# Altium footprint library PcbLib1.PcbLib: 42 footprints (part 3 of 3)
Each footprint in its own frame and in the unit in brackets; x right, y up, seen from the top. Pads: shape width x height; smd on the part's side, far side on the other; paste and mask are expansions set on the pad; w line width, h text height; cw(c..) or ccw(c..) is an arc to the next point about the centre after c.
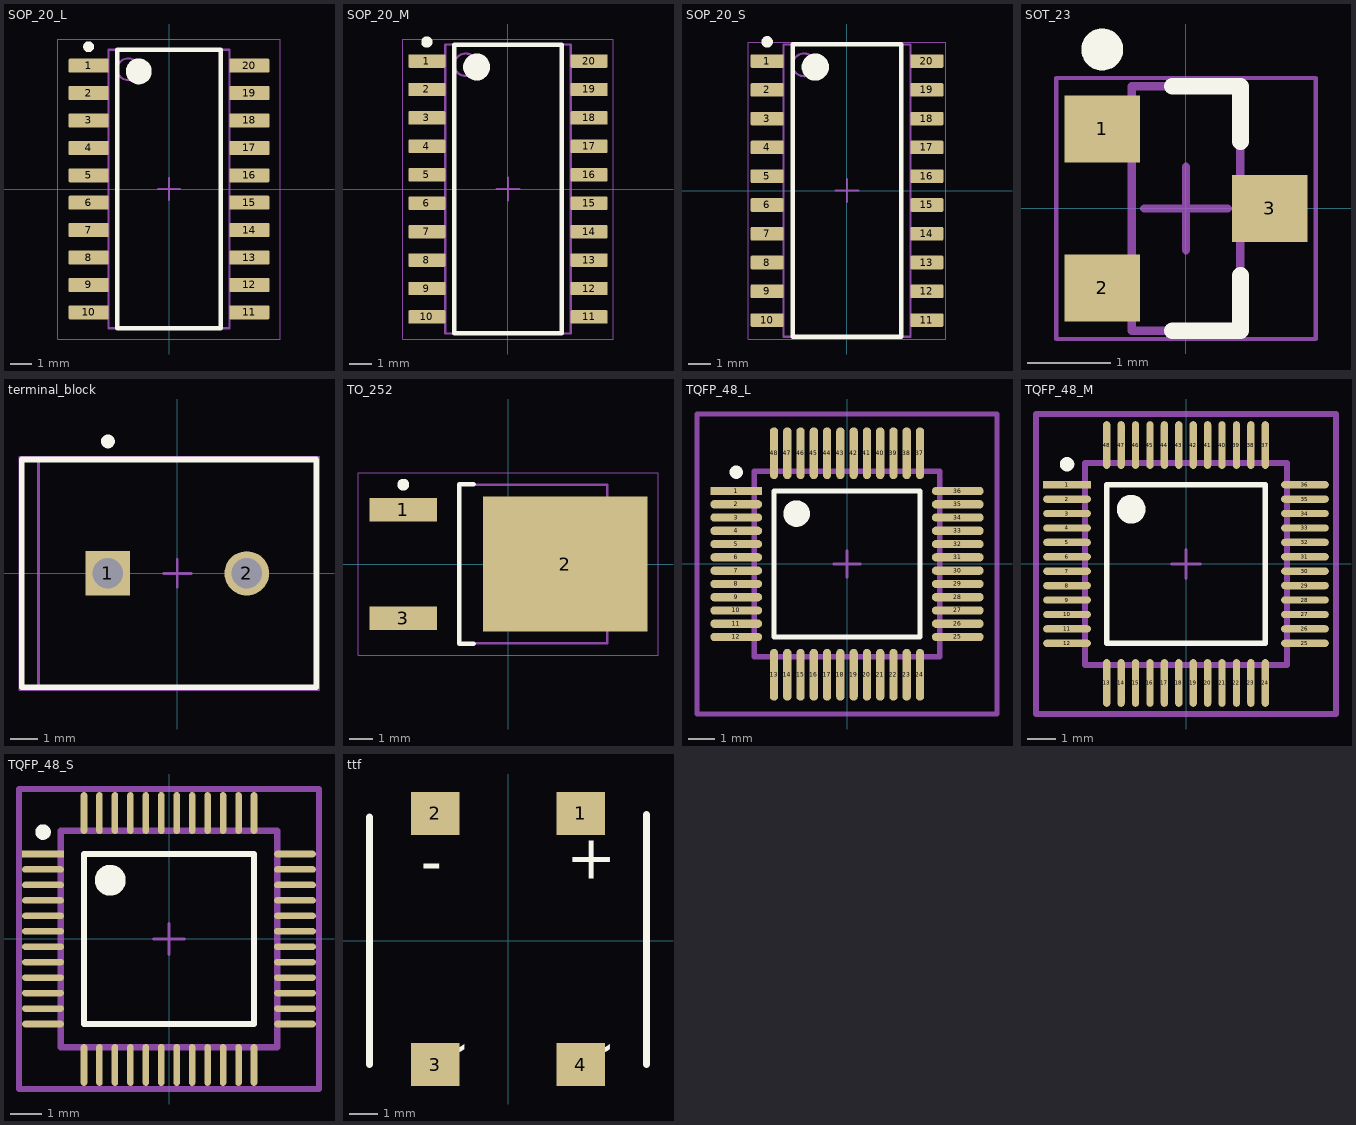
[diagram p2: the footprints below, top view; thin cyan lines are the x and y axes]

## SOP_20_L [mm] "SOIC,20-Leads,Body 12.9x5.6mm,Pitch 1.27mm,IPC Low Density"
height 2
pads (20):
  rrect15% 1.85x0.65 smd: 1(-3.725,5.715) 2(-3.725,4.445) 3(-3.725,3.175) 4(-3.725,1.905) 5(-3.725,0.635) 6(-3.725,-0.635) 7(-3.725,-1.905) 8(-3.725,-3.175) 9(-3.725,-4.445) 10(-3.725,-5.715) 11(3.725,-5.715) 12(3.725,-4.445) 13(3.725,-3.175) 14(3.725,-1.905) 15(3.725,-0.635) 16(3.725,0.635) 17(3.725,1.905) 18(3.725,3.175) 19(3.725,4.445) 20(3.725,5.715)
Top Overlay:
  circle w0.6: c-1.4,5.45 r0.3
  circle w0.25: c-3.725,6.59 r0.125
  lines w0.2: -2.4,-6.45 2.4,-6.45 2.4,6.45 -2.4,6.45 -2.4,-6.45
Mechanical 1:
  text ".Designator" at -1.524,-0.508 h1.02
Mechanical 13:
  circle w0.1: c-1.9,5.55 r0.5
  lines w0.1: -2.8,-6.45 2.8,-6.45 2.8,6.45 -2.8,6.45 -2.8,-6.45
Mechanical 15:
  lines w0.05: -5.15,-6.95 5.15,-6.95 5.15,6.95 -5.15,6.95 -5.15,-6.95
  lines w0.1: -0.5,0 0.5,0 ; 0,-0.5 0,0.5
3D body: height 2, standoff 0.05, extent -2.8,-6.45 2.8,6.45

## SOP_20_M [mm] "SOIC,20-Leads,Body 12.9x5.6mm,Pitch 1.27mm,IPC Medium Density"
height 2
pads (20):
  rrect17% 1.65x0.6 smd: 1(-3.625,5.715) 2(-3.625,4.445) 3(-3.625,3.175) 4(-3.625,1.905) 5(-3.625,0.635) 6(-3.625,-0.635) 7(-3.625,-1.905) 8(-3.625,-3.175) 9(-3.625,-4.445) 10(-3.625,-5.715) 11(3.625,-5.715) 12(3.625,-4.445) 13(3.625,-3.175) 14(3.625,-1.905) 15(3.625,-0.635) 16(3.625,0.635) 17(3.625,1.905) 18(3.625,3.175) 19(3.625,4.445) 20(3.625,5.715)
Top Overlay:
  circle w0.25: c-3.625,6.565 r0.125
  circle w0.6: c-1.4,5.45 r0.3
  lines w0.2: -2.4,-6.45 -2.4,6.45 2.4,6.45 2.4,-6.45 -2.4,-6.45
Mechanical 1:
  text ".Designator" at -1.524,-0.508 h1.02
Mechanical 13:
  circle w0.1: c-1.9,5.55 r0.5
  lines w0.1: -2.8,-6.45 -2.8,6.45 2.8,6.45 2.8,-6.45 -2.8,-6.45
Mechanical 15:
  lines w0.05: -4.7,-6.7 -4.7,6.7 4.7,6.7 4.7,-6.7 -4.7,-6.7
  lines w0.1: -0.5,0 0.5,0 ; 0,-0.5 0,0.5
3D body: height 2, standoff 0.05, extent -2.8,-6.45 2.8,6.45

## SOP_20_S [mm] "SOIC,20-Leads,Body 12.9x5.6mm,Pitch 1.27mm,IPC High Density"
height 2
pads (20):
  rrect17% 1.45x0.6 smd: 1(-3.525,5.715) 2(-3.525,4.445) 3(-3.525,3.175) 4(-3.525,1.905) 5(-3.525,0.635) 6(-3.525,-0.635) 7(-3.525,-1.905) 8(-3.525,-3.175) 9(-3.525,-4.445) 10(-3.525,-5.715) 11(3.525,-5.715) 12(3.525,-4.445) 13(3.525,-3.175) 14(3.525,-1.905) 15(3.525,-0.635) 16(3.525,0.635) 17(3.525,1.905) 18(3.525,3.175) 19(3.525,4.445) 20(3.525,5.715)
Top Overlay:
  circle w0.6: c-1.4,5.45 r0.3
  circle w0.25: c-3.525,6.565 r0.125
  lines w0.2: -2.4,-6.45 2.4,-6.45 2.4,6.45 -2.4,6.45 -2.4,-6.45
Mechanical 1:
  text ".Designator" at -1.524,-0.508 h1.02
Mechanical 13:
  circle w0.1: c-1.9,5.55 r0.5
  lines w0.1: -2.8,-6.45 2.8,-6.45 2.8,6.45 -2.8,6.45 -2.8,-6.45
Mechanical 15:
  lines w0.05: -4.35,-6.55 4.35,-6.55 4.35,6.55 -4.35,6.55 -4.35,-6.55
  lines w0.1: -0.5,0 0.5,0 ; 0,-0.5 0,0.5
3D body: height 2, standoff 0.05, extent -2.8,-6.45 2.8,6.45

## SOT_23 [mm] "SOT23, 3-Leads, Body 2.92x1.3mm, Pitch 0.95mm"
height 1.11
pads (3):
  rect 0.9x0.8 smd: 1(-1,0.95) 2(-1,-0.95) 3(1,0)
Top Overlay:
  circle w0.25: c-1,1.9 r0.125
  lines w0.2: -0.165,-1.46 0.65,-1.46 0.65,-0.8 ; -0.165,1.46 0.65,1.46 0.65,0.8
Mechanical 13:
  lines w0.1: -0.65,-1.46 0.65,-1.46 0.65,1.46 -0.65,1.46 -0.65,-1.46
Mechanical 15:
  lines w0.05: -1.55,-1.56 1.55,-1.56 1.55,1.56 -1.55,1.56 -1.55,-1.56
  lines w0.1: -0.5,0 0.5,0 ; 0,-0.5 0,0.5
3D body: height 1.11, standoff 0.01, extent -0.65,-1.46 0.65,1.46

## terminal_block [mm] "Female Header, Pitch 5mm, 1 x 2 Position, Height 10mm"
height 10
pads (2):
  rect 1.6x1.6 hole 1.1: 1(-2.5,0)
  round 1.6 hole 1.1: 2(2.5,0)
Top Overlay:
  circle w0.25: c-2.5,4.75 r0.125
  lines w0.2: -5.6,-4.1 5,-4.1 5,4.1 -5.6,4.1 -5.6,-4.1
Mechanical 13:
  lines w0.1: -5,-4.1 -5,4.1 5,4.1 5,-4.1 -5,-4.1
Mechanical 15:
  lines w0.05: -5.7,-4.2 -5.7,4.2 5.1,4.2 5.1,-4.2 -5.7,-4.2
  lines w0.1: -0.5,0 0.5,0 ; 0,-0.5 0,0.5
3D body "c-282836-2-h-3d.stp": height 10, standoff -3.5, extent -5.6,-4.1 5,4.1

## TO_252 [mm] "DPAK, 3-Leads, Body 6.5x6.12mm, Pitch 2.28mm, IPC Low Density"
height 2.35
pads (3):
  rect 2.85x1 smd: 1(-4.4,2.28) 3(-4.4,-2.28)
  rect 6.9x5.65 smd: 2(2.4,0)
Top Overlay:
  circle w0.25: c-4.4,3.33 r0.125
  lines w0.2: -1.45,-3.35 -2.05,-3.35 -2.05,3.35 -1.45,3.35
Mechanical 13:
  lines w0.1: -2.05,-3.325 4.17,-3.325 4.17,3.325 -2.05,3.325 -2.05,-3.325
Mechanical 15:
  lines w0.05: -6.3,-3.825 6.3,-3.825 6.3,3.825 -6.3,3.825 -6.3,-3.825
  lines w0.1: -0.5,0 0.5,0 ; 0,-0.5 0,0.5
3D body: height 2.35, standoff 0, extent -2.05,-3.325 4.17,3.325

## TQFP_48_L [mm]
pads (48):
  rect 1.955x0.312 smd paste+0 mask+0: 1(-4.175,2.75)
  rrect100% 1.955x0.312 smd paste+0 mask+0: 2(-4.175,2.25) 3(-4.175,1.75) 4(-4.175,1.25) 5(-4.175,0.75) 6(-4.175,0.25) 7(-4.175,-0.25) 8(-4.175,-0.75) 9(-4.175,-1.25) 10(-4.175,-1.75) 11(-4.175,-2.25) 12(-4.175,-2.75) 25(4.175,-2.75) 26(4.175,-2.25) 27(4.175,-1.75) 28(4.175,-1.25) 29(4.175,-0.75) 30(4.175,-0.25) 31(4.175,0.25) 32(4.175,0.75) 33(4.175,1.25) 34(4.175,1.75) 35(4.175,2.25) 36(4.175,2.75)
  rrect100% 0.312x1.955 smd paste+0 mask+0: 13(-2.75,-4.175) 14(-2.25,-4.175) 15(-1.75,-4.175) 16(-1.25,-4.175) 17(-0.75,-4.175) 18(-0.25,-4.175) 19(0.25,-4.175) 20(0.75,-4.175) 21(1.25,-4.175) 22(1.75,-4.175) 23(2.25,-4.175) 24(2.75,-4.175) 37(2.75,4.175) 38(2.25,4.175) 39(1.75,4.175) 40(1.25,4.175) 41(0.75,4.175) 42(0.25,4.175) 43(-0.25,4.175) 44(-0.75,4.175) 45(-1.25,4.175) 46(-1.75,4.175) 47(-2.25,4.175) 48(-2.75,4.175)
Top Overlay:
  circle w0.5: c-1.9,1.9 r0.25
  circle w0.25: c-4.175,3.46 r0.125
  lines w0.2: -2.75,-2.75 -2.75,2.75 2.75,2.75 2.75,-2.75 -2.75,-2.75
Top 3D Body:
  lines w0.2: -3.5,-3.5 -3.5,3.5 3.5,3.5 3.5,-3.5 -3.5,-3.5
Top Courtyard:
  lines w0.2: -5.653,-5.653 -5.653,5.653 5.653,5.653 5.653,-5.653 -5.653,-5.653
Top Assembly:
  lines w0.2: -5.653,-5.653 -5.653,5.653 5.653,5.653 5.653,-5.653 -5.653,-5.653
  text ".Designator" at 0,-0.001 h1
Top Component Center:
  lines w0.1: -0.5,0 0.5,0 ; 0,-0.5 0,0.5
3D body "IC_Microchip_PIC24FJ256GA705-I-PT_eec.STEP": height 0.25, standoff 0, extent -5.653,-5.653 5.653,5.653

## TQFP_48_M [mm]
pads (48):
  rect 1.655x0.252 smd paste+0 mask+0: 1(-4.125,2.75)
  rrect100% 1.655x0.252 smd paste+0 mask+0: 2(-4.125,2.25) 3(-4.125,1.75) 4(-4.125,1.25) 5(-4.125,0.75) 6(-4.125,0.25) 7(-4.125,-0.25) 8(-4.125,-0.75) 9(-4.125,-1.25) 10(-4.125,-1.75) 11(-4.125,-2.25) 12(-4.125,-2.75) 25(4.125,-2.75) 26(4.125,-2.25) 27(4.125,-1.75) 28(4.125,-1.25) 29(4.125,-0.75) 30(4.125,-0.25) 31(4.125,0.25) 32(4.125,0.75) 33(4.125,1.25) 34(4.125,1.75) 35(4.125,2.25) 36(4.125,2.75)
  rrect100% 0.252x1.655 smd paste+0 mask+0: 13(-2.75,-4.125) 14(-2.25,-4.125) 15(-1.75,-4.125) 16(-1.25,-4.125) 17(-0.75,-4.125) 18(-0.25,-4.125) 19(0.25,-4.125) 20(0.75,-4.125) 21(1.25,-4.125) 22(1.75,-4.125) 23(2.25,-4.125) 24(2.75,-4.125) 37(2.75,4.125) 38(2.25,4.125) 39(1.75,4.125) 40(1.25,4.125) 41(0.75,4.125) 42(0.25,4.125) 43(-0.25,4.125) 44(-0.75,4.125) 45(-1.25,4.125) 46(-1.75,4.125) 47(-2.25,4.125) 48(-2.75,4.125)
Top Overlay:
  circle w0.25: c-4.125,3.46 r0.125
  circle w0.5: c-1.9,1.9 r0.25
  lines w0.2: -2.75,-2.75 2.75,-2.75 2.75,2.75 -2.75,2.75 -2.75,-2.75
Top 3D Body:
  lines w0.2: -3.5,-3.5 3.5,-3.5 3.5,3.5 -3.5,3.5 -3.5,-3.5
Top Courtyard:
  lines w0.2: -5.203,-5.203 5.203,-5.203 5.203,5.203 -5.203,5.203 -5.203,-5.203
Top Assembly:
  lines w0.2: -5.203,-5.203 5.203,-5.203 5.203,5.203 -5.203,5.203 -5.203,-5.203
  text ".Designator" at 0,-0.001 h1
Top Component Center:
  lines w0.1: -0.5,0 0.5,0 ; 0,-0.5 0,0.5
3D body "IC_Microchip_PIC24FJ256GA705-I-PT_eec.STEP": height 0.25, standoff 0, extent -5.203,-5.203 5.203,5.203

## TQFP_48_S [mm]
pads (48):
  rect 1.355x0.212 smd paste+0 mask+0: 1(-4.075,2.75)
  rrect100% 1.355x0.212 smd paste+0 mask+0: 2(-4.075,2.25) 3(-4.075,1.75) 4(-4.075,1.25) 5(-4.075,0.75) 6(-4.075,0.25) 7(-4.075,-0.25) 8(-4.075,-0.75) 9(-4.075,-1.25) 10(-4.075,-1.75) 11(-4.075,-2.25) 12(-4.075,-2.75) 25(4.075,-2.75) 26(4.075,-2.25) 27(4.075,-1.75) 28(4.075,-1.25) 29(4.075,-0.75) 30(4.075,-0.25) 31(4.075,0.25) 32(4.075,0.75) 33(4.075,1.25) 34(4.075,1.75) 35(4.075,2.25) 36(4.075,2.75)
  rrect100% 0.212x1.355 smd paste+0 mask+0: 13(-2.75,-4.075) 14(-2.25,-4.075) 15(-1.75,-4.075) 16(-1.25,-4.075) 17(-0.75,-4.075) 18(-0.25,-4.075) 19(0.25,-4.075) 20(0.75,-4.075) 21(1.25,-4.075) 22(1.75,-4.075) 23(2.25,-4.075) 24(2.75,-4.075) 37(2.75,4.075) 38(2.25,4.075) 39(1.75,4.075) 40(1.25,4.075) 41(0.75,4.075) 42(0.25,4.075) 43(-0.25,4.075) 44(-0.75,4.075) 45(-1.25,4.075) 46(-1.75,4.075) 47(-2.25,4.075) 48(-2.75,4.075)
Top Overlay:
  circle w0.25: c-4.075,3.46 r0.125
  circle w0.5: c-1.9,1.9 r0.25
  lines w0.2: -2.75,-2.75 2.75,-2.75 2.75,2.75 -2.75,2.75 -2.75,-2.75
Top 3D Body:
  lines w0.2: -3.5,-3.5 3.5,-3.5 3.5,3.5 -3.5,3.5 -3.5,-3.5
Top Courtyard:
  lines w0.2: -4.853,-4.853 4.853,-4.853 4.853,4.853 -4.853,4.853 -4.853,-4.853
Top Assembly:
  lines w0.2: -4.853,-4.853 4.853,-4.853 4.853,4.853 -4.853,4.853 -4.853,-4.853
  text ".Designator" at 0,-0.001 h1
Top Component Center:
  lines w0.1: -0.5,0 0.5,0 ; 0,-0.5 0,0.5
3D body "IC_Microchip_PIC24FJ256GA705-I-PT_eec.STEP": height 0.25, standoff 0, extent -4.853,-4.853 4.853,4.853

## ttf [mm]
pads (4):
  rect 1.7x1.5 smd: 1(2.54,4.445) 2(-2.54,4.445) 3(-2.54,-4.318) 4(2.54,-4.318)
Top Overlay:
  lines w0.254: -4.828,-4.3 -4.828,0.528 -4.828,4.316 ; 4.828,-4.3 4.828,0 4.828,0.528 4.828,4.401
  text "+" at 2.032,2.159 h1.52
  text "-" at -3.048,2.032 h1.52
  text "~" at 2.032,-4.445 h1.52
  text "~" at -3.048,-4.445 h1.52